# EAGLE library part EZG-?-312 (library con-lemo)
LEMO Connector Source: http://www.lemo.com/pdfs/catalog/ROW/German/unipole_multipole.pdf
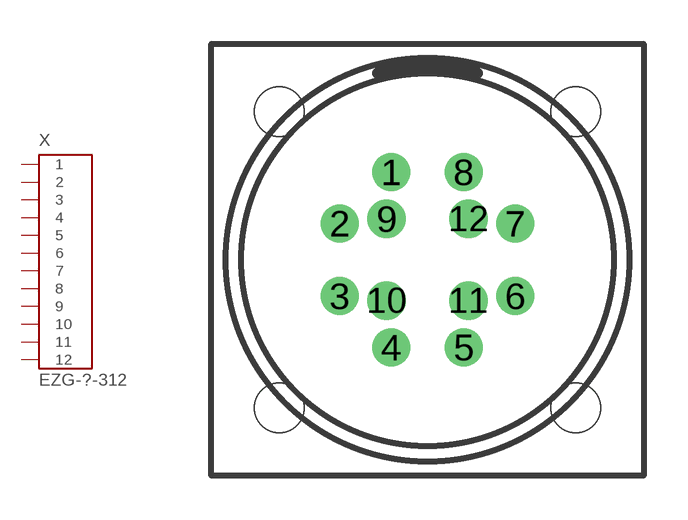
[diagram p7: symbol with the pads of EZG-2B-2K-312; footprint EZG-2B-2K-312]

Designator prefix X

## EZG-2B-312 (OC_FARNELL: unknown; OC_NEWARK: unknown)  [EZG-2B-2K-312]
1  1  pas
2  2  pas
3  3  pas
4  4  pas
5  5  pas
6  6  pas
7  7  pas
8  8  pas
9  9  pas
10  10  pas
11  11  pas
12  12  pas

## EZG-2K-312 (OC_FARNELL: unknown; OC_NEWARK: unknown)  [EZG-2B-2K-312]
Pads as for EZG-2B-2K-312

## Footprint EZG-2B-2K-312 (pad centres in mm)
LEMO Connector Source: http://www.lemo.com/pdfs/catalog/ROW/German/unipole_multipole.pdf
drill 0.8 pad 1.3: 1 -1.244,3.002; 2 -3.002,1.244; 3 -3.002,-1.244; 4 -1.244,-3.002; 5 1.244,-3.002; 6 3.002,-1.244; 7 3.002,1.244; 8 1.244,3.002; 9 -1.4,1.4; 10 -1.4,-1.4; 11 1.4,-1.4; 12 1.4,1.4
hole 1.7 at -5.08,5.08
hole 1.7 at 5.08,5.08
hole 1.7 at 5.08,-5.08
hole 1.7 at -5.08,-5.08